# EAGLE library part INA240A1D (library INA240A1)
Bidirectional, Ultra-Precide Current Sense Amplifier Enhanced PWM Rejection, -4V to 80V. Datasheet SparkFun Products SparkFun IoT Brushless Motor Driver (IC-18906)
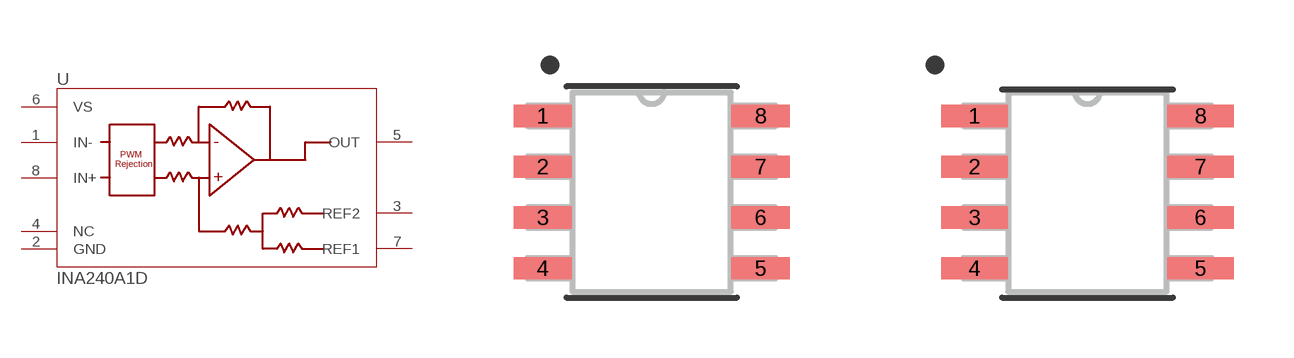
[diagram p0: symbol with the pads of D8_TEX; footprints D8_TEX, D8_TEX-M]

Designator prefix U

## INA240A1D (PROD_ID: IC-18906; VALUE: INA240A1)  [D8_TEX]
1  IN-  in
2  GND  pwr
3  REF2  in
4  NC  pwr
5  OUT  out
6  VS  pwr
7  REF1  in
8  IN+  in

## INA240A1DD8_TEX-M (COPYRIGHT: Copyright (C) 2023 Ultra Librarian. All rights reserved.; MANUFACTURER_PART_NUMBER: INA240A1D; MFR_NAME: Texas Instruments)  [D8_TEX-M]
Pads as for D8_TEX

## INA240A1DD8_TEX-L (COPYRIGHT: Copyright (C) 2023 Ultra Librarian. All rights reserved.; MANUFACTURER_PART_NUMBER: INA240A1D; MFR_NAME: Texas Instruments)  [D8_TEX-L]
Pads as for D8_TEX

## Footprint D8_TEX (pad centres in mm)
smd 1.46 x 0.559: 1 -2.724,1.905; 2 -2.724,0.635; 3 -2.724,-0.635; 4 -2.724,-1.905; 5 2.724,-1.905; 6 2.724,-0.635; 7 2.724,0.635; 8 2.724,1.905

## Footprint D8_TEX-M (pad centres in mm)
smd 1.664 x 0.559: 1 -2.826,1.905; 2 -2.826,0.635; 3 -2.826,-0.635; 4 -2.826,-1.905; 5 2.826,-1.905; 6 2.826,-0.635; 7 2.826,0.635; 8 2.826,1.905

## Footprint D8_TEX-L (pad centres in mm)
smd 1.257 x 0.508: 1 -2.623,1.905; 2 -2.623,0.635; 3 -2.623,-0.635; 4 -2.623,-1.905; 5 2.623,-1.905; 6 2.623,-0.635; 7 2.623,0.635; 8 2.623,1.905